# Altium schematic symbol library LDO.SchLib: 16 symbols
Pins are listed as number, name and electrical type; pins without a type are passive.

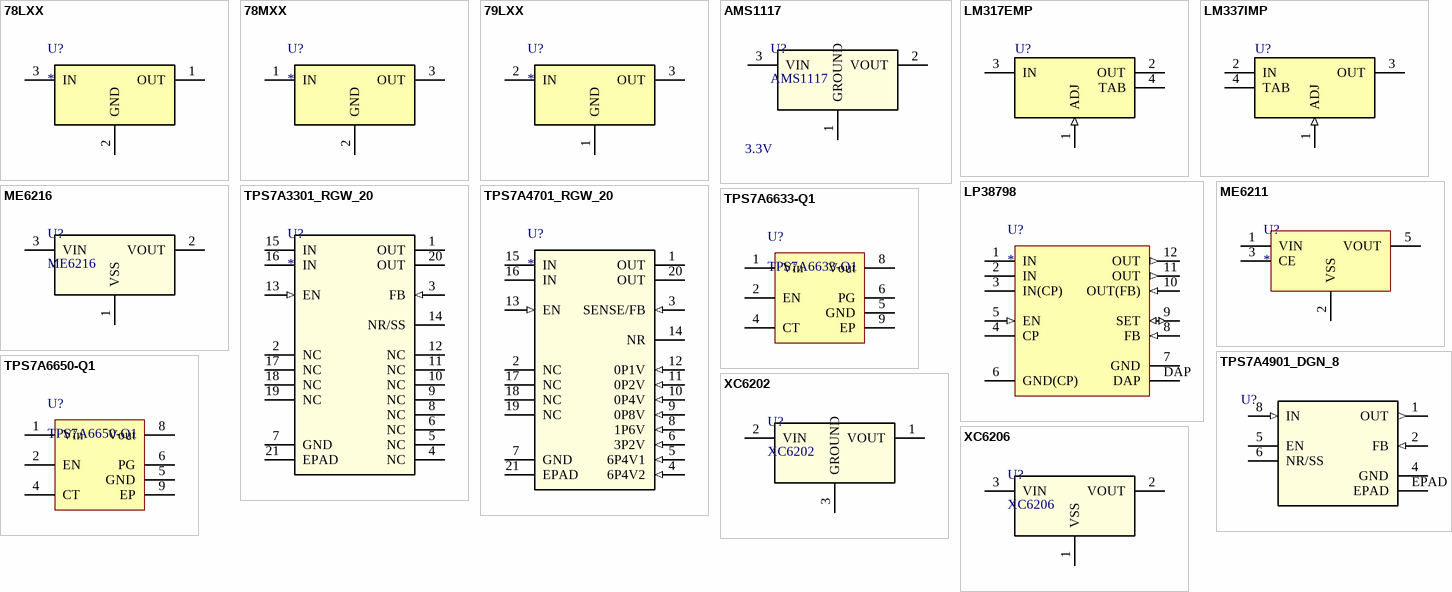
[diagram p0: symbols 78LXX to XC6206]

## 78LXX
designator U?
footprint SOT-89 (SOT89, 3-Leads, Body 4.50x2.50mm, Pitch 1.50mm, Lead Span 3.5mm, IPC Medium Density)
pins: 1 OUT (power), 2 GND (power), 3 IN (power)

## 78MXX
designator U?
footprint DPAK
pins: 1 IN (power), 2 GND (power), 3 OUT (power)

## 79LXX
designator U?
footprint SOT-89 (SOT89, 3-Leads, Body 4.50x2.50mm, Pitch 1.50mm, Lead Span 3.5mm, IPC Medium Density)
pins: 1 GND (power), 2 IN (power), 3 OUT (power)

## AMS1117
designator U?  value 3.3V
800mA LOW DROPOUT VOLTAGE REGULATOR
footprint DCY4
footprint SOT-89 (SOT89, 3-Leads, Body 4.50x2.50mm, Pitch 1.50mm, Lead Span 3.5mm, IPC Medium Density)
pins: 1 GROUND (power), 2 VOUT (power), 3 VIN (power)

## LM317EMP
designator U?
3-Terminal Adjustable Regulator, 4-pin SOT-223; PartNumber: LM317EMP; Manufacturer: National Semiconductor; PackageTopMarking: XYTT*N01A; PowerWise: N; CompType: LDO IC; High-Reliability: Y; DatasheetVersion: Apr-2007; PackageVersion: revB, Apr-2003; PackageReference: MP04A; PackageDescription: Molded SOT-223, 6.50 x 3.56 x 1.6mm Body, 4 Lead, 2.3mm Pitch; RoHS: N; PinCount: 4; Code_JEDEC: TO-261-AA; Code_IPC: SOT223-4; ComponentLink1Description: Manufacturer URL; ComponentLink1URL: http://www.national.com/; ComponentLink2Description: LM317 Datasheet; ComponentLink2URL: http://www.national.com/ds/LM/LM317.pdf; ComponentLink3Description: LM317 Web Page; ComponentLink3URL: http://www.national.com/pf/LM/LM317.html; ComponentLink4Description: MP04A Package Page; ComponentLink4URL: http://www.national.com/packaging/folders/mp04a.html
footprint MP04A_N (SOT223, 4-Leads, Body 6.5x3.5mm, Pitch 2.3mm, Lead Span 7mm, IPC Medium Density)
footprint MP04A_L (SOT223, 4-Leads, Body 6.5x3.5mm, Pitch 2.3mm, Lead Span 7mm, IPC High Density)
footprint MP04A_M (SOT223, 4-Leads, Body 6.5x3.5mm, Pitch 2.3mm, Lead Span 7mm, IPC Low Density)
pins: 1 ADJ (in), 2 OUT (power), 3 IN (power), 4 TAB (power)

## LM337IMP
designator U?
3-Terminal Adjustable Negative Regulator, 4-pin SOT-223; PartNumber: LM337IMP; Manufacturer: National Semiconductor; PackageTopMarking: XYTT*N02A; PowerWise: N; CompType: LDO IC; High-Reliability: Y; DatasheetVersion: Nov-2004; PackageVersion: revB, Apr-2003; PackageReference: MP04A; PackageDescription: Molded SOT-223, 6.50 x 3.56 x 1.6mm Body, 4 Lead, 2.3mm Pitch; RoHS: N; PinCount: 4; Code_JEDEC: TO-261-AA; Code_IPC: SOT223-4; ComponentLink1Description: Manufacturer URL; ComponentLink1URL: http://www.national.com/; ComponentLink2Description: LM337 Datasheet; ComponentLink2URL: http://www.national.com/ds/LM/LM337.pdf; ComponentLink3Description: LM337 Web Page; ComponentLink3URL: http://www.national.com/pf/LM/LM337.html; ComponentLink4Description: MP04A Package Page; ComponentLink4URL: http://www.national.com/packaging/folders/mp04a.html
footprint MP04A_N (SOT223, 4-Leads, Body 6.5x3.5mm, Pitch 2.3mm, Lead Span 7mm, IPC Medium Density)
footprint MP04A_L (SOT223, 4-Leads, Body 6.5x3.5mm, Pitch 2.3mm, Lead Span 7mm, IPC High Density)
footprint MP04A_M (SOT223, 4-Leads, Body 6.5x3.5mm, Pitch 2.3mm, Lead Span 7mm, IPC Low Density)
pins: 1 ADJ (in), 2 IN (power), 3 OUT (power), 4 TAB (power)

## LP38798
designator U?
800-mA Ultra-Low-Noise, High-PSRR LDO
footprint LP38798_WSON12 (Footprint not found)
pins: 1 IN (power), 2 IN (power), 3 IN(CP) (power), 4 CP, 5 EN (in), 6 GND(CP) (power), 7 GND (power), 8 FB (in), 9 SET (io), 10 OUT(FB) (in), 11 OUT (out), 12 OUT (out), DAP (power)

## ME6211
designator U?
High Speed LDO Regulators,High PSRR,Low noise,ME6211 Series
footprint ME6211 (SOT23, 5-Leads, Body 2.10x2.30mm, Pitch 0.65mm, IPC Medium Density)
pins: 1 VIN, 2 VSS, 3 CE, 5 VOUT

## ME6216
designator U?
Low power consumption, Low ESR Cap. Compatible
footprint ME6216-SOT-23
pins: 1 VSS (power), 2 VOUT (power), 3 VIN (power)

## TPS7A3301_RGW_20
designator U?
–36-V, 1-A, Ultralow-Noise Negative Voltage Regulator; Manufacturer_Part_Number: tps7a3301_rgw_20; GENERIC_PART_NUMBER: TPS7A3301; Vendor: Texas Instruments; PACKAGE_DESIGNATOR: RGW; PIN_COUNT: 20; FAMILY_NAME: SINGLE CHANNEL LDO; INDUSTRY_STD_PKG_TYPE: VQFN; Manufacturer: Texas Instruments; Datasheet_URL: http://www.ti.com/lit/gpn/TPS7A3301; Value: Value; Type: Type; RefDes: RefDes
footprint RGW0020A
pins: 1 OUT (power), 2 NC, 3 FB (in), 4 NC, 5 NC, 6 NC, 7 GND (power), 8 NC, 9 NC, 10 NC, 11 NC, 12 NC, 13 EN (in), 14 NR/SS, 15 IN (power), 16 IN (power), 17 NC, 18 NC, 19 NC, 20 OUT (power), 21 EPAD (power)

## TPS7A4701_RGW_20
designator U?
36-V, 1-A, 4-μVRMS, RF LDO Voltage Regulator
footprint RGW0020A
pins: 1 OUT (power), 2 NC, 3 SENSE/FB (in), 4 6P4V2 (in), 5 6P4V1 (in), 6 3P2V (in), 7 GND (power), 8 1P6V (in), 9 0P8V (in), 10 0P4V (in), 11 0P2V (in), 12 0P1V (in), 13 EN (in), 14 NR, 15 IN (power), 16 IN (power), 17 NC, 18 NC, 19 NC, 20 OUT (power), 21 EPAD (power)

## TPS7A4901_DGN_8
designator U?
Vin 3V to 36V, 150mA, Ultra-Low Noise, High PSRR, Low-Dropout Linear Regulator; Manufacturer_Part_Number: tps7a4901_dgn_8; GENERIC_PART_NUMBER: TPS7A4901; Vendor: Texas Instruments; PACKAGE_DESIGNATOR: DGN; PIN_COUNT: 8; FAMILY_NAME: SINGLE CHANNEL LDO; INDUSTRY_STD_PKG_TYPE: MSOP-PowerPAD; Datasheet_URL: http://www.ti.com/lit/gpn/TPS7A4901; Manufacturer: Texas Instruments; Copyright: Copyright (C) 2018 Accelerated Designs. All rights reserved; RefDes: RefDes; Type: Type; Value: Value
footprint DGN8_1P89X1P57
pins: 1 OUT (out), 2 FB (in), 4 GND (power), 5 EN, 6 NR/SS, 8 IN (in), EPAD

## TPS7A6633-Q1
designator U?
High-Voltage Ultralow-I(q) Low-Dropout Regulator
footprint MUY08A
pins: 1 Vin (power), 2 EN, 4 CT, 5 GND (power), 6 PG (oc), 8 Vout, 9 EP (power)

## TPS7A6650-Q1
designator U?
High-Voltage Ultralow-I(q) Low-Dropout Regulator
footprint MUY08A
pins: 1 Vin (power), 2 EN, 4 CT, 5 GND (power), 6 PG (oc), 8 Vout, 9 EP (power)

## XC6202
designator U?
(High Voltage) Positive Voltage Regulators
footprint XC6202-SOT-23
pins: 1 VOUT (power), 2 VIN (power), 3 GROUND (power)

## XC6206
designator U?
Low ESR Cap. Compatible Positive Voltage Regulators
footprint XC6206-SOT-23
pins: 1 VSS (power), 2 VOUT (power), 3 VIN (power)